# EAGLE library part SW_JUMP_3 (library Misaka-Connector)
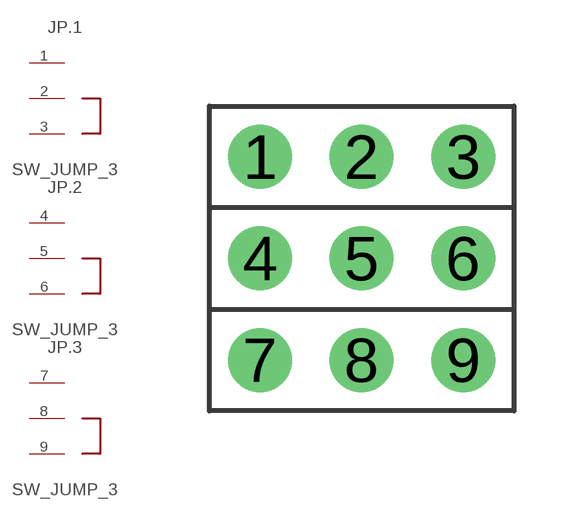
[diagram p9: symbol with the pads of PH3X03; footprint PH3X03]

Designator prefix JP; gates .2=SWITCH_JUMPER .1=SWITCH_JUMPER .3=SWITCH_JUMPER

## SW_JUMP_3  [PH3X03]
1  .1:1
2  .1:2
3  .1:3
4  .2:1
5  .2:2
6  .2:3
7  .3:1
8  .3:2
9  .3:3

## Footprint PH3X03 (pad centres in mm)
drill 1 pad 1.6: 1 -2.54,2.54; 2 0,2.54; 3 2.54,2.54; 4 -2.54,0; 5 0,0; 6 2.54,0; 7 -2.54,-2.54; 8 0,-2.54; 9 2.54,-2.54